# Altium schematic symbol library DVI.SchLib: 1 symbol
Pins are listed as number, name and electrical type; pins without a type are passive.

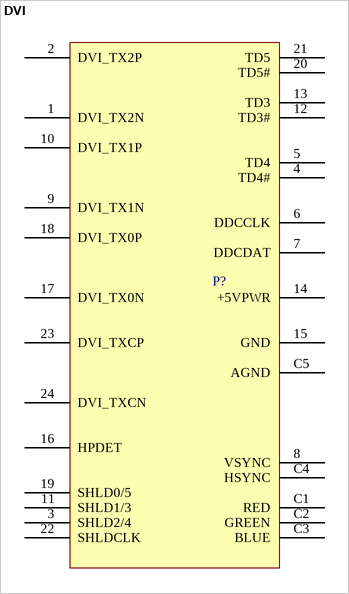
[diagram p0: symbol DVI]

## DVI
designator P?  (value not drawn)
pins: 1 DVI_TX2N, 2 DVI_TX2P, 3 SHLD2/4, 4 TD4#, 5 TD4, 6 DDCCLK, 7 DDCDAT, 8 VSYNC, 9 DVI_TX1N, 10 DVI_TX1P, 11 SHLD1/3, 12 TD3#, 13 TD3, 14 +5VPWR, 15 GND, 16 HPDET, 17 DVI_TX0N, 18 DVI_TX0P, 19 SHLD0/5, 20 TD5#, 21 TD5, 22 SHLDCLK, 23 DVI_TXCP, 24 DVI_TXCN, C1 RED, C2 GREEN, C3 BLUE, C4 HSYNC, C5 AGND